# EAGLE library part AN-ETHERCAT-SLAVE (library LAN9252)
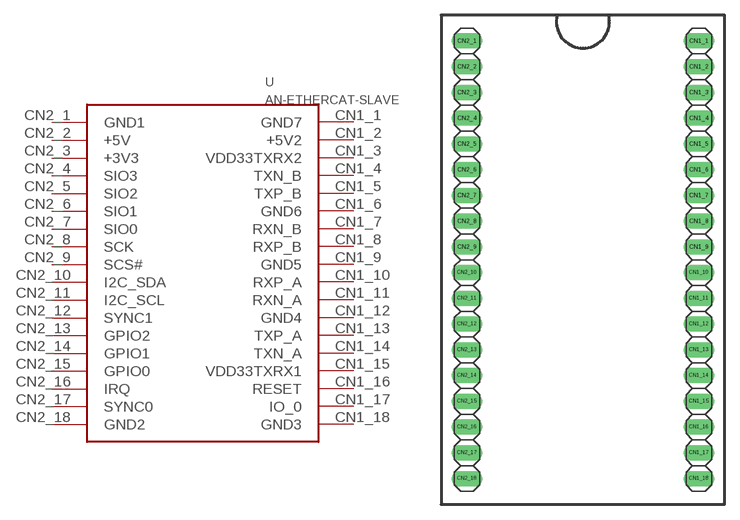
[diagram p5: symbol with the pads of AN-ETHERCAT-SLAVE; footprint AN-ETHERCAT-SLAVE]

Designator prefix U

## AN-ETHERCAT-SLAVE  [AN-ETHERCAT-SLAVE]
CN1_1  GND7
CN1_2  +5V2
CN1_3  VDD33TXRX2
CN1_4  TXN_B
CN1_5  TXP_B
CN1_6  GND6
CN1_7  RXN_B
CN1_8  RXP_B
CN1_9  GND5
CN1_10  RXP_A
CN1_11  RXN_A
CN1_12  GND4
CN1_13  TXP_A
CN1_14  TXN_A
CN1_15  VDD33TXRX1
CN1_16  RESET
CN1_17  IO_0
CN1_18  GND3
CN2_1  GND1
CN2_2  +5V
CN2_3  +3V3
CN2_4  SIO3
CN2_5  SIO2
CN2_6  SIO1
CN2_7  SIO0
CN2_8  SCK
CN2_9  SCS#
CN2_10  I2C_SDA
CN2_11  I2C_SCL
CN2_12  SYNC1
CN2_13  GPIO2
CN2_14  GPIO1
CN2_15  GPIO0
CN2_16  IRQ
CN2_17  SYNC0
CN2_18  GND2

## Footprint AN-ETHERCAT-SLAVE (pad centres in mm)
drill 1.016 long: CN1_1 25.4,21.59; CN1_2 25.4,19.05; CN1_3 25.4,16.51; CN1_4 25.4,13.97; CN1_5 25.4,11.43; CN1_6 25.4,8.89; CN1_7 25.4,6.35; CN1_8 25.4,3.81; CN1_9 25.4,1.27; CN1_10 25.4,-1.27; CN1_11 25.4,-3.81; CN1_12 25.4,-6.35; CN1_13 25.4,-8.89; CN1_14 25.4,-11.43; CN1_15 25.4,-13.97; CN1_16 25.4,-16.51; CN1_17 25.4,-19.05; CN1_18 25.4,-21.59; CN2_1 2.54,21.59; CN2_2 2.54,19.05; CN2_3 2.54,16.51; CN2_4 2.54,13.97; CN2_5 2.54,11.43; CN2_6 2.54,8.89; CN2_7 2.54,6.35; CN2_8 2.54,3.81; CN2_9 2.54,1.27; CN2_10 2.54,-1.27; CN2_11 2.54,-3.81; CN2_12 2.54,-6.35; CN2_13 2.54,-8.89; CN2_14 2.54,-11.43; CN2_15 2.54,-13.97; CN2_16 2.54,-16.51; CN2_17 2.54,-19.05; CN2_18 2.54,-21.59